# EAGLE library part PIC16F688 (library microchip)
Microchip PIC16F688 14-pin 8-bit Flash microcontroller with nanoWatt Technology 4096 words program memory, 256 bytes RAM, 256 bytes EEPROM 12 I/O, 8 10-bit A/D, 2 comparators, 1 8-bit timer, 1 16-bit timer, ULPWU, EUSART
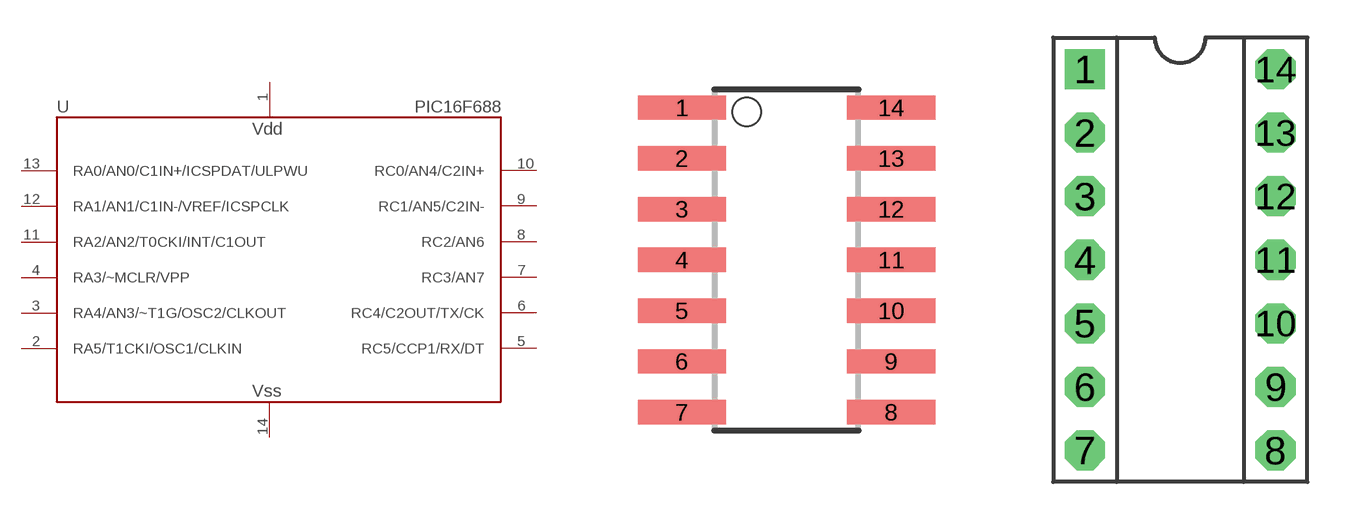
[diagram p6: symbol with the pads of SOIC-14; footprints SOIC-14, DIP-14]

Designator prefix U

## PIC16F688SL  [SOIC-14]
1  VDD  pwr
2  RA5/T1CKI/OSC1/CLKIN
3  RA4/AN3/~T1G/OSC2/CLKOUT
4  RA3/~MCLR/VPP  in
5  RC5/CCP1/RX/DT
6  RC4/C2OUT/TX/CK
7  RC3/AN7
8  RC2/AN6
9  RC1/AN5/C2IN-
10  RC0/AN4/C2IN+
11  RA2/AN2/T0CKI/INT/C1OUT
12  RA1/AN1/C1IN-/VREF/ICSPCLK
13  RA0/AN0/C1IN+/ICSPDAT/ULPWU
14  VSS  pwr

## PIC16F688P  [DIP-14]
Pads as for SOIC-14

## Footprint SOIC-14 (pad centres in mm)
SOIC-14
smd 2.21 x 0.61: 1 -2.616,4.445; 2 -2.616,3.175; 3 -2.616,1.905; 4 -2.616,0.635; 5 -2.616,-0.635; 6 -2.616,-1.905; 7 -2.616,-3.175; 8 2.616,-3.175; 9 2.616,-1.905; 10 2.616,-0.635; 11 2.616,0.635; 12 2.616,1.905; 13 2.616,3.175; 14 2.616,4.445

## Footprint DIP-14 (pad centres in mm)
DIP-14
drill 0.813 pad 1.6 square: 1 -3.81,7.62
drill 0.813 pad 1.6 octagon: 2 -3.81,5.08; 3 -3.81,2.54; 4 -3.81,0; 5 -3.81,-2.54; 6 -3.81,-5.08; 7 -3.81,-7.62; 8 3.81,-7.62; 9 3.81,-5.08; 10 3.81,-2.54; 11 3.81,0; 12 3.81,2.54; 13 3.81,5.08; 14 3.81,7.62